# Altium footprint library C3216JB1H106K160AB.PcbLib: 3 footprints
Each footprint in its own frame and in the unit in brackets; x right, y up, seen from the top. Pads: shape width x height; smd on the part's side, far side on the other; paste and mask are expansions set on the pad; w line width, h text height; cw(c..) or ccw(c..) is an arc to the next point about the centre after c.
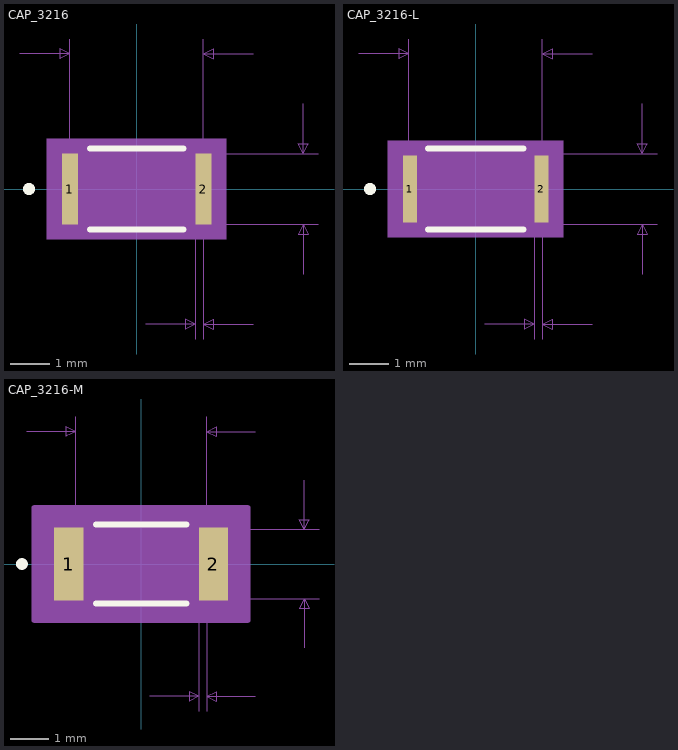
[diagram p0: the footprints below, top view; thin cyan lines are the x and y axes]

## CAP_3216 [mil]
pads (2):
  rect 16x71 smd: 1(-67,0) 2(67,0)
Top Overlay:
  circle w6: c-108,0 r3
  lines w6: -46.89,-40.5 46.89,-40.5 ; -46.89,40.5 46.89,40.5
Mechanical 5:
  region: 90,-50.5 -90,-50.5 -90,50.5 90,50.5
Mechanical 7:
  lines w1: -117,135.5 -67,135.5 ; -67,0 -67,150.5 ; 0,-35.5 182,-35.5 ; 0,35.5 182,35.5 ; 9,-135.5 59,-135.5 ; 59,-150.5 59,0 ; 67,-150.5 67,0 67,150.5 ; 117,-135.5 67,-135.5 ; 117,135.5 67,135.5 ; 167,-85.5 167,-35.5 ; 167,85.5 167,35.5 ; -67,135.5 -77,140.5 -77,130.5 -67,135.5 ; 59,-135.5 49,-130.5 49,-140.5 59,-135.5 ; 67,-135.5 77,-130.5 77,-140.5 67,-135.5 ; 67,135.5 77,140.5 77,130.5 67,135.5 ; 167,-35.5 162,-45.5 172,-45.5 167,-35.5 ; 167,35.5 162,45.5 172,45.5 167,35.5
  text "Default Padstyle: RX16Y71D0T" at -350,-305.5 h50
  text "Alternate 1 Padstyle: OX60Y90D30P" at -412.5,-405.5 h50
  text "Alternate 2 Padstyle: OX90Y60D30P" at -412.5,-505.5 h50
  text "0.071in/1.803mm" at 187,-12.5 h25
  text "0.134in/3.404mm" at -93.75,155.5 h25
  text "0.008in/0.203mm" at -30.75,-180.5 h25
Mechanical 13:
  circle w0: c-62,0 r3
  lines w1: -67,-35.5 -67,35.5 ; -67,-35.5 -59,-35.5 -59,35.5 -67,35.5 ; -67,-35.5 67,-35.5 ; -67,-35.5 -67,35.5 ; -67,35.5 67,35.5 ; 67,-35.5 59,-35.5 59,35.5 67,35.5 ; 67,-35.5 67,35.5 ; 67,-35.5 67,35.5
Mechanical 15:
  region: 85,-45.5 -85,-45.5 -85,45.5 85,45.5
  lines w6: -85,-45.5 -85,45.5 85,45.5 85,-45.5 -85,-45.5
3D body: height 10, standoff 0, extent 0,0 10,10

## CAP_3216-L [mil]
pads (2):
  rect 14x67 smd paste+0 mask+0: 1(-66,0) 2(66,0)
Top Overlay:
  circle w6: c-106,0 r3
  lines w6: -47.93,-40.5 47.93,-40.5 ; -47.93,40.5 47.93,40.5
Mechanical 5:
  region: 88,-48.5 -88,-48.5 -88,48.5 88,48.5
Mechanical 7:
  lines w1: -117,135.5 -67,135.5 ; -67,0 -67,150.5 ; 0,-35.5 182,-35.5 ; 0,35.5 182,35.5 ; 9,-135.5 59,-135.5 ; 59,-150.5 59,0 ; 67,-150.5 67,0 67,150.5 ; 117,-135.5 67,-135.5 ; 117,135.5 67,135.5 ; 167,-85.5 167,-35.5 ; 167,85.5 167,35.5 ; -67,135.5 -77,140.5 -77,130.5 -67,135.5 ; 59,-135.5 49,-130.5 49,-140.5 59,-135.5 ; 67,-135.5 77,-130.5 77,-140.5 67,-135.5 ; 67,135.5 77,140.5 77,130.5 67,135.5 ; 167,-35.5 162,-45.5 172,-45.5 167,-35.5 ; 167,35.5 162,45.5 172,45.5 167,35.5
  text "Default Padstyle: RX14Y67D0T" at -350,-303.5 h50
  text "Alternate 1 Padstyle: OX60Y90D30P" at -412.5,-403.5 h50
  text "Alternate 2 Padstyle: OX90Y60D30P" at -412.5,-503.5 h50
  text "0.071in/1.803mm" at 187,-12.5 h25
  text "0.134in/3.404mm" at -93.75,155.5 h25
  text "0.008in/0.203mm" at -30.75,-180.5 h25
Mechanical 13:
  circle w0: c-61,0 r3
  lines w1: -67,-35.5 -67,35.5 ; -67,-35.5 -59,-35.5 -59,35.5 -67,35.5 ; -67,-35.5 67,-35.5 ; -67,-35.5 -67,35.5 ; -67,35.5 67,35.5 ; 67,-35.5 59,-35.5 59,35.5 67,35.5 ; 67,-35.5 67,35.5 ; 67,-35.5 67,35.5
Mechanical 15:
  region: 77,-37.5 -77,-37.5 -77,37.5 77,37.5
  lines w6: -77,-37.5 -77,37.5 77,37.5 77,-37.5 -77,-37.5
3D body: height 10, standoff 0, extent 0,0 10,10

## CAP_3216-M [mil]
pads (2):
  rect 30x75 smd paste+0 mask+0: 1(-74,0) 2(74,0)
Top Overlay:
  circle w6: c-122,0 r3
  lines w6: -46.25,-40.5 46.25,-40.5 ; -46.25,40.5 46.25,40.5
Mechanical 5:
  region: 104,-52.5 -104,-52.5 -104,52.5 104,52.5
Mechanical 7:
  lines w1: -117,135.5 -67,135.5 ; -67,0 -67,150.5 ; 0,-35.5 182,-35.5 ; 0,35.5 182,35.5 ; 9,-135.5 59,-135.5 ; 59,-150.5 59,0 ; 67,-150.5 67,0 67,150.5 ; 117,-135.5 67,-135.5 ; 117,135.5 67,135.5 ; 167,-85.5 167,-35.5 ; 167,85.5 167,35.5 ; -67,135.5 -77,140.5 -77,130.5 -67,135.5 ; 59,-135.5 49,-130.5 49,-140.5 59,-135.5 ; 67,-135.5 77,-130.5 77,-140.5 67,-135.5 ; 67,135.5 77,140.5 77,130.5 67,135.5 ; 167,-35.5 162,-45.5 172,-45.5 167,-35.5 ; 167,35.5 162,45.5 172,45.5 167,35.5
  text "Default Padstyle: RX30Y75D0T" at -350,-307.5 h50
  text "Alternate 1 Padstyle: OX60Y90D30P" at -412.5,-407.5 h50
  text "Alternate 2 Padstyle: OX90Y60D30P" at -412.5,-507.5 h50
  text "0.071in/1.803mm" at 187,-12.5 h25
  text "0.134in/3.404mm" at -93.75,155.5 h25
  text "0.008in/0.203mm" at -30.75,-180.5 h25
Mechanical 13:
  circle w0: c-69,0 r3
  lines w1: -67,-35.5 -67,35.5 ; -67,-35.5 -59,-35.5 -59,35.5 -67,35.5 ; -67,-35.5 67,-35.5 ; -67,-35.5 -67,35.5 ; -67,35.5 67,35.5 ; 67,-35.5 59,-35.5 59,35.5 67,35.5 ; 67,-35.5 67,35.5 ; 67,-35.5 67,35.5
Mechanical 15:
  region: 109,-57.5 -109,-57.5 -109,57.5 109,57.5
  lines w6: -109,-57.5 -109,57.5 109,57.5 109,-57.5 -109,-57.5
3D body: height 10, standoff 0, extent 0,0 10,10